# Altium schematic symbol library 1N914.SchLib: 1 symbol
Pins are listed as number, name and electrical type; pins without a type are passive.

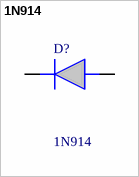
[diagram p0: symbol 1N914]

## 1N914
designator D?
Small Signal Diode; Manufacturer_Name: onsemi; Mouser Part Number: 512-1N914; Mouser Price/Stock: https://www.mouser.co.uk/ProductDetail/onsemi-Fairchild/1N914?qs=NSEUUqpg2uCfNuQFcxVZsA%3D%3D; Manufacturer_Part_Number: 1N914; Datasheet Link: https://www.onsemi.com/pub/Collateral/1N914-D.PDF
footprint DIOAD1068W53L380D172
pins: 1 K, 2 A